# EAGLE library part TX24-50R-LT-H1E (library con-jae)
CONN RCPT 1.27MM 50POS GOLD R/A
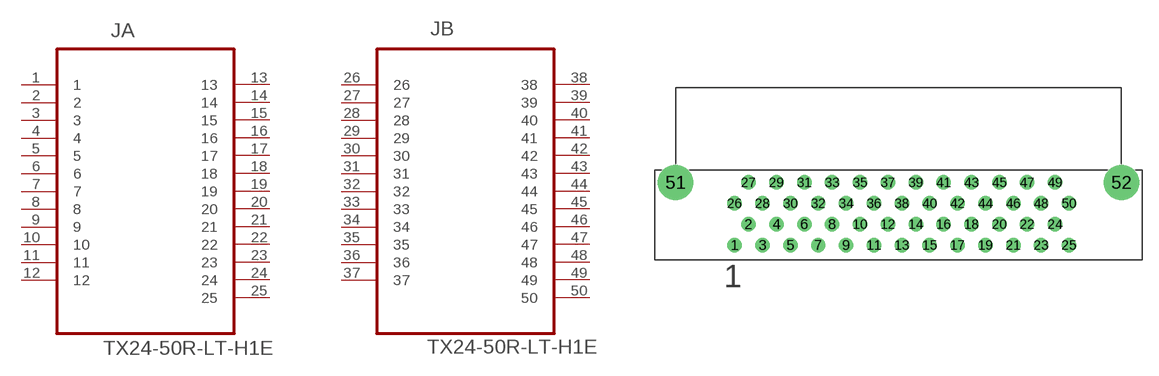
[diagram p17: symbol with the pads of JAE_TX24-50R-LT-H1E; footprint JAE_TX24-50R-LT-H1E]

Designator prefix J; gates A=TX24-50R-LT-H1E_A B=TX24-50R-LT-H1E_B

## TX24-50R-LT-H1E (DATASHEETLINK: http://www.jae.com/z-en/pdf_download_exec.cfm?param=SJ038252.pdf; DESCRIPTION: CONN-50POS; MPN: TX24-50R-LT-H1E; OC_FARNELL: 1519635; OC_NEWARK: 74M4878; ROHS: Yes; SUPPLIER: JAE Electronics)  [JAE_TX24-50R-LT-H1E]
1  A:1  pas
2  A:2  pas
3  A:3  pas
4  A:4  pas
5  A:5  pas
6  A:6  pas
7  A:7  pas
8  A:8  pas
9  A:9  pas
10  A:10  pas
11  A:11  pas
12  A:12  pas
13  A:13  pas
14  A:14  pas
15  A:15  pas
16  A:16  pas
17  A:17  pas
18  A:18  pas
19  A:19  pas
20  A:20  pas
21  A:21  pas
22  A:22  pas
23  A:23  pas
24  A:24  pas
25  A:25  pas
26  B:26  pas
27  B:27  pas
28  B:28  pas
29  B:29  pas
30  B:30  pas
31  B:31  pas
32  B:32  pas
33  B:33  pas
34  B:34  pas
35  B:35  pas
36  B:36  pas
37  B:37  pas
38  B:38  pas
39  B:39  pas
40  B:40  pas
41  B:41  pas
42  B:42  pas
43  B:43  pas
44  B:44  pas
45  B:45  pas
46  B:46  pas
47  B:47  pas
48  B:48  pas
49  B:49  pas
50  B:50  pas

## Footprint JAE_TX24-50R-LT-H1E (pad centres in mm)
drill 0.813: 1 -14.935,-6.858; 2 -13.665,-4.953; 3 -12.395,-6.858; 4 -11.125,-4.953; 5 -9.855,-6.858; 6 -8.585,-4.953; 7 -7.315,-6.858; 8 -6.045,-4.953; 9 -4.775,-6.858; 10 -3.505,-4.953; 11 -2.235,-6.858; 12 -0.965,-4.953; 13 0.305,-6.858; 14 1.575,-4.953; 15 2.845,-6.858; 16 4.115,-4.953; 17 5.385,-6.858; 18 6.655,-4.953; 19 7.925,-6.858; 20 9.195,-4.953; 21 10.465,-6.858; 22 11.735,-4.953; 23 13.005,-6.858; 24 14.275,-4.953; 25 15.545,-6.858; 26 -14.935,-3.048; 27 -13.665,-1.143; 28 -12.395,-3.048; 29 -11.125,-1.143; 30 -9.855,-3.048; 31 -8.585,-1.143; 32 -7.315,-3.048; 33 -6.045,-1.143; 34 -4.775,-3.048; 35 -3.505,-1.143; 36 -2.235,-3.048; 37 -0.965,-1.143; 38 0.305,-3.048; 39 1.575,-1.143; 40 2.845,-3.048; 41 4.115,-1.143; 42 5.385,-3.048; 43 6.655,-1.143; 44 7.925,-3.048; 45 9.195,-1.143; 46 10.465,-3.048; 47 11.735,-1.143; 48 13.005,-3.048; 49 14.275,-1.143; 50 15.545,-3.048
drill 2.21: 51 -20.32,-1.143; 52 20.32,-1.143